# EAGLE library part ARTIC_R2_MODULE (library ARTIC_R2_Module)
ARTIC_R2_MODULE
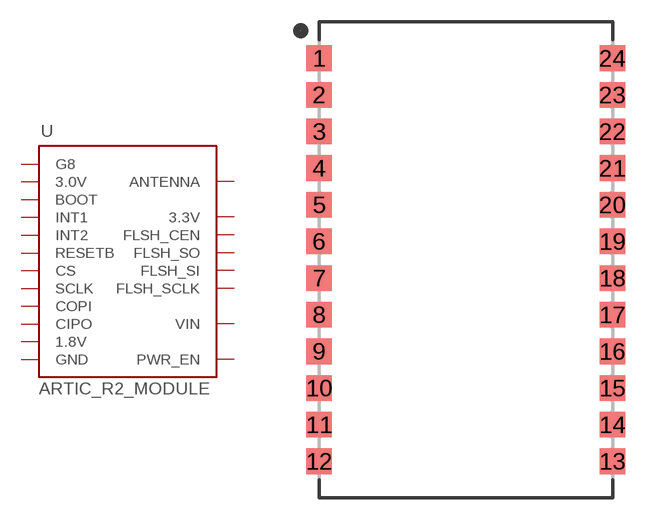
[diagram p0: symbol with the pads of ARTIC_R2_MODULE; footprint ARTIC_R2_MODULE]

Designator prefix -

## ARTIC_R2_MODULE  [ARTIC_R2_MODULE]
1  G8  in
2  3.0V  out
3  BOOT  in
4  INT1  out
5  INT2  out
6  RESETB  in
7  CS  in
8  SCLK  in
9  COPI  in
10  CIPO  out
11  1.8V  out
12  GND  pwr
13  PWR_EN  in
14  VIN  pwr
15  VIN  pwr
16  GND  pwr
17  FLSH_SCLK  out
18  FLSH_SI  out
19  FLSH_SO  in
20  FLSH_CEN  out
21  3.3V  out
22  GND  pwr
23  ANTENNA
24  GND  pwr

## Footprint ARTIC_R2_MODULE (pad centres in mm)
ARTIC R2 Module
smd 1.778 x 1.778: 1 -10.16,13.97; 2 -10.16,11.43; 3 -10.16,8.89; 4 -10.16,6.35; 5 -10.16,3.81; 6 -10.16,1.27; 7 -10.16,-1.27; 8 -10.16,-3.81; 9 -10.16,-6.35; 10 -10.16,-8.89; 11 -10.16,-11.43; 12 -10.16,-13.97; 13 10.16,-13.97; 14 10.16,-11.43; 15 10.16,-8.89; 16 10.16,-6.35; 17 10.16,-3.81; 18 10.16,-1.27; 19 10.16,1.27; 20 10.16,3.81; 21 10.16,6.35; 22 10.16,8.89; 23 10.16,11.43; 24 10.16,13.97